# EAGLE library part PCN10-64P-2.54DS(72) (library con-hirose-din)
RECEPTICAL
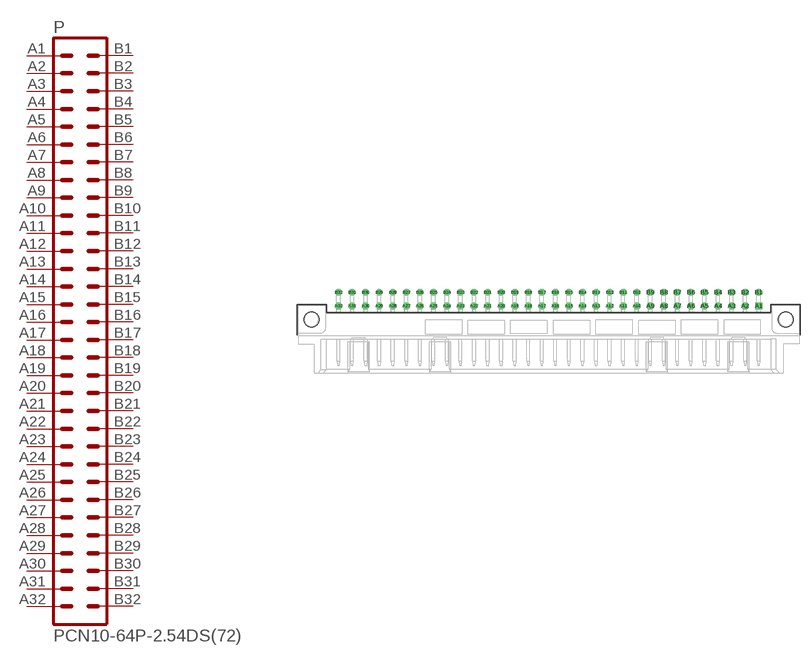
[diagram p1: symbol with the pads of PCN10-64P-2.54DS; footprint PCN10-64P-2.54DS]

Designator prefix P

## PCN10-64P-2.54DS(72)  [PCN10-64P-2.54DS]
A1  A1  pas
A2  A2  pas
A3  A3  pas
A4  A4  pas
A5  A5  pas
A6  A6  pas
A7  A7  pas
A8  A8  pas
A9  A9  pas
A10  A10  pas
A11  A11  pas
A12  A12  pas
A13  A13  pas
A14  A14  pas
A15  A15  pas
A16  A16  pas
A17  A17  pas
A18  A18  pas
A19  A19  pas
A20  A20  pas
A21  A21  pas
A22  A22  pas
A23  A23  pas
A24  A24  pas
A25  A25  pas
A26  A26  pas
A27  A27  pas
A28  A28  pas
A29  A29  pas
A30  A30  pas
A31  A31  pas
A32  A32  pas
B1  B1  pas
B2  B2  pas
B3  B3  pas
B4  B4  pas
B5  B5  pas
B6  B6  pas
B7  B7  pas
B8  B8  pas
B9  B9  pas
B10  B10  pas
B11  B11  pas
B12  B12  pas
B13  B13  pas
B14  B14  pas
B15  B15  pas
B16  B16  pas
B17  B17  pas
B18  B18  pas
B19  B19  pas
B20  B20  pas
B21  B21  pas
B22  B22  pas
B23  B23  pas
B24  B24  pas
B25  B25  pas
B26  B26  pas
B27  B27  pas
B28  B28  pas
B29  B29  pas
B30  B30  pas
B31  B31  pas
B32  B32  pas

## Footprint PCN10-64P-2.54DS (pad centres in mm)
drill 0.8 square: A1 39.37,5.54
drill 0.8 octagon: A2 36.83,5.54; A3 34.29,5.54; A4 31.75,5.54; A5 29.21,5.54; A6 26.67,5.54; A7 24.13,5.54; A8 21.59,5.54; A9 19.05,5.54; A10 16.51,5.54; A11 13.97,5.54; A12 11.43,5.54; A13 8.89,5.54; A14 6.35,5.54; A15 3.81,5.54; A16 1.27,5.54; A17 -1.27,5.54; A18 -3.81,5.54; A19 -6.35,5.54; A20 -8.89,5.54; A21 -11.43,5.54; A22 -13.97,5.54; A23 -16.51,5.54; A24 -19.05,5.54; A25 -21.59,5.54; A26 -24.13,5.54; A27 -26.67,5.54; A28 -29.21,5.54; A29 -31.75,5.54; A30 -34.29,5.54; A31 -36.83,5.54; A32 -39.37,5.54; B1 39.37,8.08; B2 36.83,8.08; B3 34.29,8.08; B4 31.75,8.08; B5 29.21,8.08; B6 26.67,8.08; B7 24.13,8.08; B8 21.59,8.08; B9 19.05,8.08; B10 16.51,8.08; B11 13.97,8.08; B12 11.43,8.08; B13 8.89,8.08; B14 6.35,8.08; B15 3.81,8.08; B16 1.27,8.08; B17 -1.27,8.08; B18 -3.81,8.08; B19 -6.35,8.08; B20 -8.89,8.08; B21 -11.43,8.08; B22 -13.97,8.08; B23 -16.51,8.08; B24 -19.05,8.08; B25 -21.59,8.08; B26 -24.13,8.08; B27 -26.67,8.08; B28 -29.21,8.08; B29 -31.75,8.08; B30 -34.29,8.08; B31 -36.83,8.08; B32 -39.37,8.08
hole 2.8 at -44.45,3
hole 2.8 at 44.45,3